# Altium footprint library mycomponents.PcbLib: 22 footprints (part 1 of 2)
Each footprint in its own frame and in the unit in brackets; x right, y up, seen from the top. Pads: shape width x height; smd on the part's side, far side on the other; paste and mask are expansions set on the pad; w line width, h text height; cw(c..) or ccw(c..) is an arc to the next point about the centre after c.
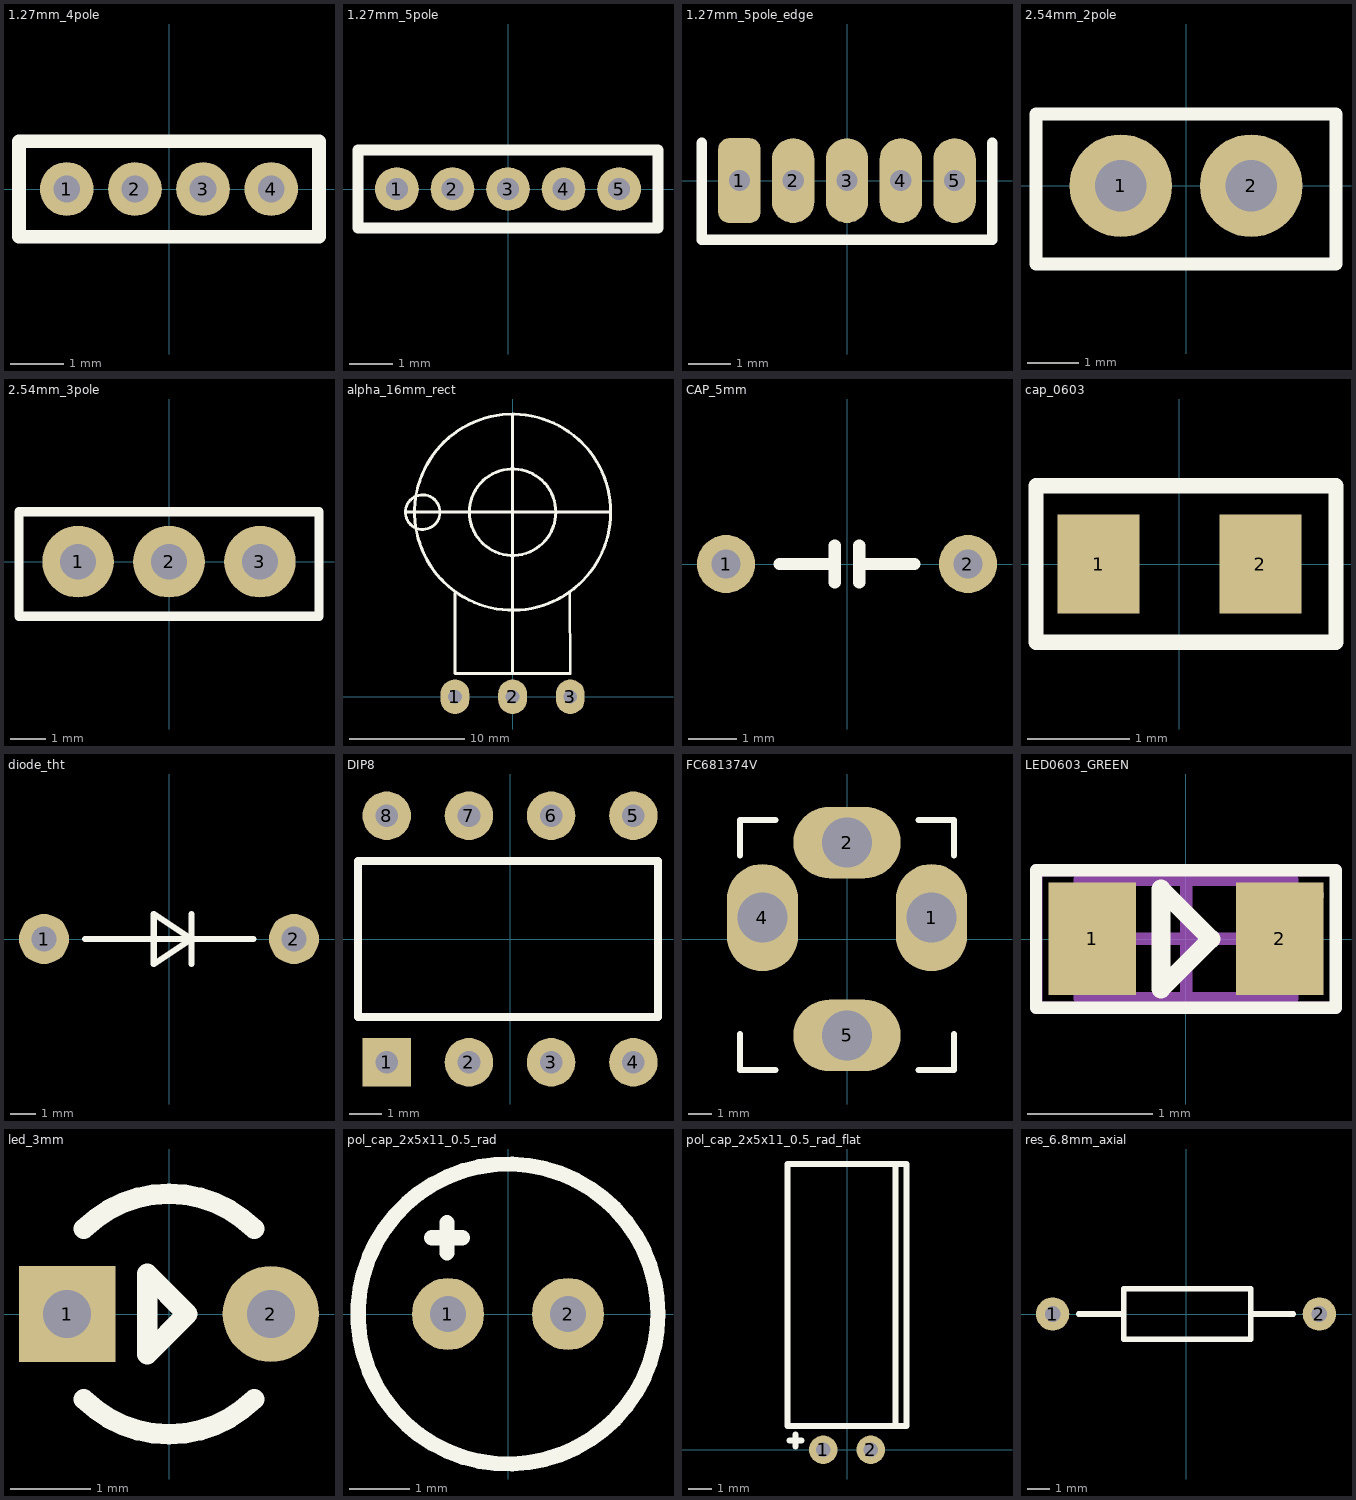
[diagram p0: the footprints below, top view; thin cyan lines are the x and y axes]

## 1.27mm_4pole [mm]
pads (4):
  round 1 hole 0.5: 1(-1.905,0) 2(-0.635,0) 3(0.635,0) 4(1.905,0)
Top Overlay:
  lines w0.254: -2.794,-0.889 -2.794,0.889 2.794,0.889 2.794,-0.889 -2.794,-0.889
  text "." at -2.794,1.27 h1.52

## 1.27mm_5pole [mm]
pads (5):
  round 1 hole 0.5: 1(-2.54,0) 2(-1.27,0) 3(0,0) 4(1.27,0) 5(2.54,0)
Top Overlay:
  lines w0.254: -3.429,-0.889 3.429,-0.889 3.429,0.889 -3.429,0.889 -3.429,-0.889
  text "." at -3.429,1.27 h1.52

## 1.27mm_5pole_edge [mm]
pads (5):
  rrect50% 1x2 hole 0.5: 1(-2.54,0)
  oval 1x2 hole 0.5: 2(-1.27,0) 3(0,0) 4(1.27,0) 5(2.54,0)
Top Overlay:
  lines w0.254: -3.429,0.889 -3.429,-1.397 3.429,-1.397 3.429,0.889
  text "." at -4.064,-1.397 h1.52

## 2.54mm_2pole [mm]
pads (2):
  round 2 hole 1: 1(-1.27,0) 2(1.27,0)
Top Overlay:
  lines w0.254: -2.921,-1.524 -2.921,1.397 2.921,1.397 2.921,-1.524 -2.921,-1.524
  text "." at -2.794,1.905 h1.52

## 2.54mm_3pole [mm]
pads (3):
  round 2 hole 1: 1(-2.54,0) 2(0,0) 3(2.54,0)
Top Overlay:
  lines w0.254: -4.191,-1.524 -4.191,1.397 4.191,1.397 4.191,-1.524 -4.191,-1.524
  text "." at -4.064,1.905 h1.52

## alpha_16mm_rect [mm]
pads (3):
  oval 2.5x3 hole 1.2: 1(-5,0) 2(0,0) 3(5,0)
Top Overlay:
  circle w0.254: c0,16 r8.5
  circle w0.254: c-7.8,16 r1.5
  circle w0.254: c0,16 r3.75
  lines w0.254: -9.269,16 8.5,16 ; -5,9 -5,2 5,2 4.953,9 ; 0,2 0,24.511
3D body "RV16AF-41.step": height 25.9, standoff -5, extent -8.5,-0.248 8.5,24.502

## CAP_5mm [mm]
pads (2):
  round 1.2 hole 0.6: 1(-2.5,0) 2(2.5,0)
Top Overlay:
  lines w0.254: -1.397,0 -0.254,0 ; -0.254,-0.381 -0.254,0 ; -0.254,0.381 -0.254,0 ; 0.254,-0.381 0.254,0 ; 0.254,0.381 0.254,0 ; 1.397,0 0.254,0
3D body "Ceramic Cap, 5mm lead spacing, 4mm width, and 5.5mm tall, v4 v2.step": height 5.5, standoff -1.8, extent -2.825,-1.186 2.825,1.27

## cap_0603 [mm]
pads (2):
  rect 0.8x0.965 smd: 1(-0.787,0) 2(0.788,0)
Top Overlay:
  lines w0.15: -1.397,-0.762 -1.397,0.762 1.524,0.762 1.524,-0.762 -1.397,-0.762
3D body "C0603.stp": height 0.8, standoff 0, extent -0.8,-0.381 0.8,0.419

## diode_tht [mm]
pads (2):
  round 2 hole 1: 1(-5,0) 2(5,0)
Top Overlay:
  lines w0.254: -3.349,0 3.382,0 ; -0.603,0.937 -0.603,1 ; 0.897,-1 0.897,1 ; -0.603,1 0.897,0 -0.603,-1 -0.603,1
3D body "1N4007P10.STEP": height 2.58, standoff -3.17, extent -5.397,-1.143 5.303,1.357

## DIP8 [mm]
pads (8):
  rect 1.5x1.5 hole 0.7: 1(-3.81,-3.81)
  round 1.5 hole 0.7: 2(-1.27,-3.81) 3(1.27,-3.81) 4(3.81,-3.81) 5(3.81,3.81) 6(1.27,3.81) 7(-1.27,3.81) 8(-3.81,3.81)
Top Overlay:
  lines w0.254: -4.699,-2.413 4.572,-2.413 4.572,2.413 -4.699,2.413 -4.699,-2.413
  text "." at -4.191,-1.905 h1.52
3D body "DIP8.STEP": height 3.85, standoff -2, extent -4.6,-3.935 4.6,3.935

## FC681374V [mm] "3.5mm audio jack SW PCB"
height 13
pads (4):
  oval 3x4.5 hole 2.1: 1(3.55,0.9) 4(-3.55,0.9)
  oval 4.5x3 hole 2.1: 2(0,4.05) 5(0,-4.05)
Top Overlay:
  lines w0.254: -4.5,-4 -4.5,-5.5 -3,-5.5 ; -4.5,3.5 -4.5,5 -3,5 ; 3,-5.5 4.5,-5.5 4.5,-4 ; 3,5 4.5,5 4.5,3.5
3D body "FC681374V.STEP": height 17.5, standoff -4.4, extent -5,-5.25 5,5.25

## LED0603_GREEN [mm] "LED Green, 2-Leads, Body 1.6x0.8mm"
height 0.25
pads (2):
  rect 0.7x0.9 smd: 1(-0.75,0) 2(0.75,0)
Top Overlay:
  circle w0.1: c1,0.35 r0.05
  lines w0.1: -1.2,-0.55 -1.2,0.55 1.2,0.55 1.2,-0.55 -1.2,-0.55
  lines w0.15: -0.2,-0.4 0.2,0 -0.2,0.4 -0.2,-0.4
Mechanical 13:
  lines w0.1: -0.85,-0.475 -0.85,0.475 0.85,0.475 0.85,-0.475 -0.85,-0.475
Mechanical 15:
  lines w0.1: -0.475,0 0.475,0 ; 0,-0.475 0,0.475 ; -1.2,-0.55 -1.2,0.55 1.2,0.55 1.2,-0.55 -1.2,-0.55
3D body "led_0603_green.STEP": height 0.6, standoff 0, extent -0.81,-0.4 0.81,0.4

## led_3mm [mm]
pads (2):
  rect 1.2x1.2 hole 0.6: 1(-1.27,0)
  round 1.2 hole 0.6: 2(1.27,0)
Top Overlay:
  lines w0.254: -1.061,-1.061 ccw(c0,0) 1.061,-1.061 ; -1.061,1.061 cw(c0,0) 1.061,1.061 ; -0.27,-0.5 0.23,0 -0.27,0.5 -0.27,-0.5
3D body "User Library-LED 3mm Blue 3mm Leads.STEP": height 3.89, standoff -2.99, extent -1.52,-1.923 1.925,1.923

## pol_cap_2x5x11_0.5_rad [mm]
pads (2):
  round 1.2 hole 0.6: 1(-1,0) 2(1,0)
Top Overlay:
  circle w0.254: c0,0 r2.5
  lines w0.254: -1.27,1.27 -0.762,1.27 ; -1.016,1.016 -1.016,1.524
3D body "User Library-ECAP5_10_20.STEP": height 10, standoff -2.3, extent -2.5,-2.498 2.5,2.498

## pol_cap_2x5x11_0.5_rad_flat [mm]
pads (2):
  round 1.2 hole 0.6: 1(-1,0) 2(1,0)
Top Overlay:
  lines w0.254: -2.413,0.381 -1.905,0.381 ; -2.159,0.127 -2.159,0.635 ; 2.032,1.016 2.032,11.938 ; -2.5,1 -2.5,12 2.5,12 2.5,1 -2.5,1
3D body "User Library-ECAP5_10_20.STEP": height 5, standoff 0, extent -2.587,-0.562 2.413,11.738

## res_6.8mm_axial [mm]
pads (2):
  round 1.5 hole 0.7: 1(-6,0) 2(6,0)
Top Overlay:
  lines w0.254: -4.826,0 -2.794,0 ; 2.921,0 4.826,0 ; -2.794,0 -2.794,-1.143 2.921,-1.143 2.921,1.143 -2.794,1.143 -2.794,0
3D body "Resistor Metal Film 0.6W.step": height 2.5, standoff -2, extent -6.275,-1.25 6.275,1.25